# EAGLE library part DOT-MATRIX-AS (library Display)
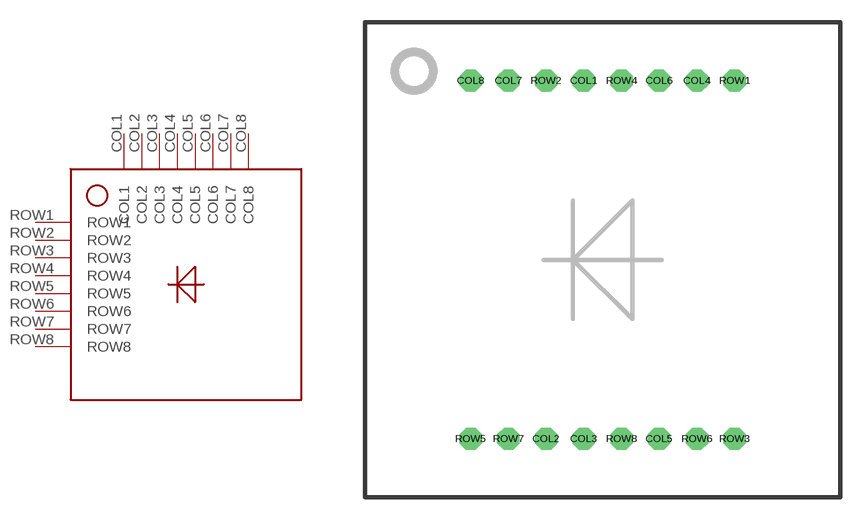
[diagram p6: symbol with the pads of 1088AS; footprint 1088AS]

Designator prefix -

## DOT-MATRIX-AS  [1088AS]
COL1  COL1
COL2  COL2
COL3  COL3
COL4  COL4
COL5  COL5
COL6  COL6
COL7  COL7
COL8  COL8
ROW1  ROW1
ROW2  ROW2
ROW3  ROW3
ROW4  ROW4
ROW5  ROW5
ROW6  ROW6
ROW7  ROW7
ROW8  ROW8

## Footprint 1088AS (pad centres in mm)
drill 1 octagon: COL1 -1.27,12.065; COL2 -3.81,-12.065; COL3 -1.27,-12.065; COL4 6.35,12.065; COL5 3.81,-12.065; COL6 3.81,12.065; COL7 -6.35,12.065; COL8 -8.89,12.065; ROW1 8.89,12.065; ROW2 -3.81,12.065; ROW3 8.89,-12.065; ROW4 1.27,12.065; ROW5 -8.89,-12.065; ROW6 6.35,-12.065; ROW7 -6.35,-12.065; ROW8 1.27,-12.065